# EAGLE library part AMP_MODU_4_2 (library lbm)
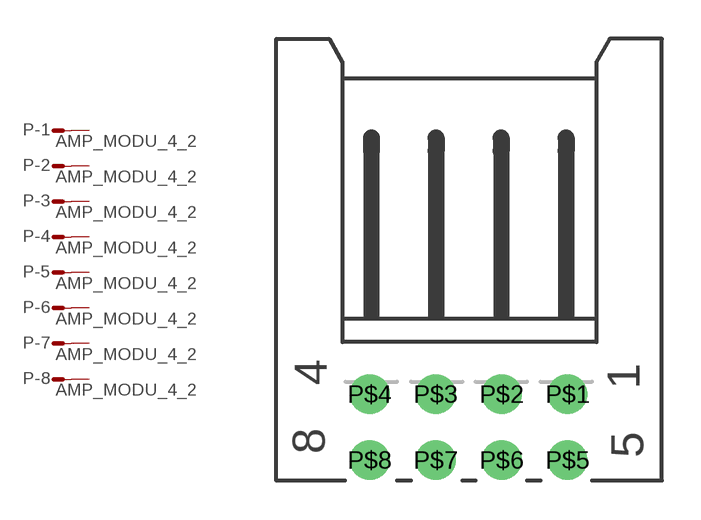
[diagram p39: symbol with the pads of AMP_MODU_4_2; footprint AMP_MODU_4_2]

Designator prefix P; gates -1=AMP_M -2=AMP_M -3=AMP_M -4=AMP_M -5=AMP_M -6=AMP_M -7=AMP_M -8=AMP_M

## AMP_MODU_4_2  [AMP_MODU_4_2]
P$1  -1:S  pas
P$2  -2:S  pas
P$3  -3:S  pas
P$4  -4:S  pas
P$5  -5:S  pas
P$6  -6:S  pas
P$7  -7:S  pas
P$8  -8:S  pas

## Footprint AMP_MODU_4_2 (pad centres in mm)
drill 1.016 round: P$1 3.81,-6.35; P$2 1.27,-6.35; P$3 -1.27,-6.35; P$4 -3.81,-6.35; P$5 3.81,-8.89; P$6 1.27,-8.89; P$7 -1.27,-8.89; P$8 -3.81,-8.89